# EAGLE library part 2X10_GOLD_PINS (library DECADE-libraries20151104)
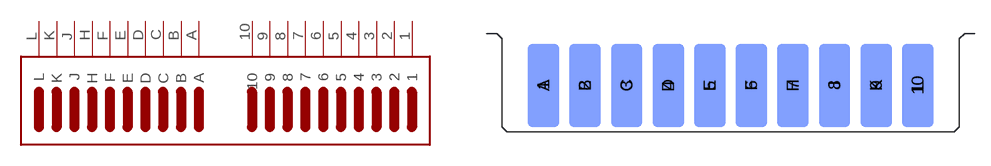
[diagram p133: symbol with the pads of 2X10_GOLD_PINS; footprint 2X10_GOLD_PINS]

Designator prefix -

## 2X10_GOLD_PINS  [2X10_GOLD_PINS]
1  1
2  2
3  3
4  4
5  5
6  6
7  7
8  8
9  9
10  10
A  A
B  B
C  C
D  D
E  E
F  F
H  H
J  J
K  K
L  L

## Footprint 2X10_GOLD_PINS (pad centres in mm)
smd 3 x 8: 1 4,4; 2 8,4; 3 12,4; 4 16,4; 5 20,4; 6 24,4; 7 28,4; 8 32,4; 9 36,4; 10 40,4
smd 3 x 8 bottom: A 4,4; B 8,4; C 12,4; D 16,4; E 20,4; F 24,4; H 28,4; J 32,4; K 36,4; L 40,4